# Altium schematic symbol library Ferrite Chip.SchLib: 462 symbols (part 6 of 7)
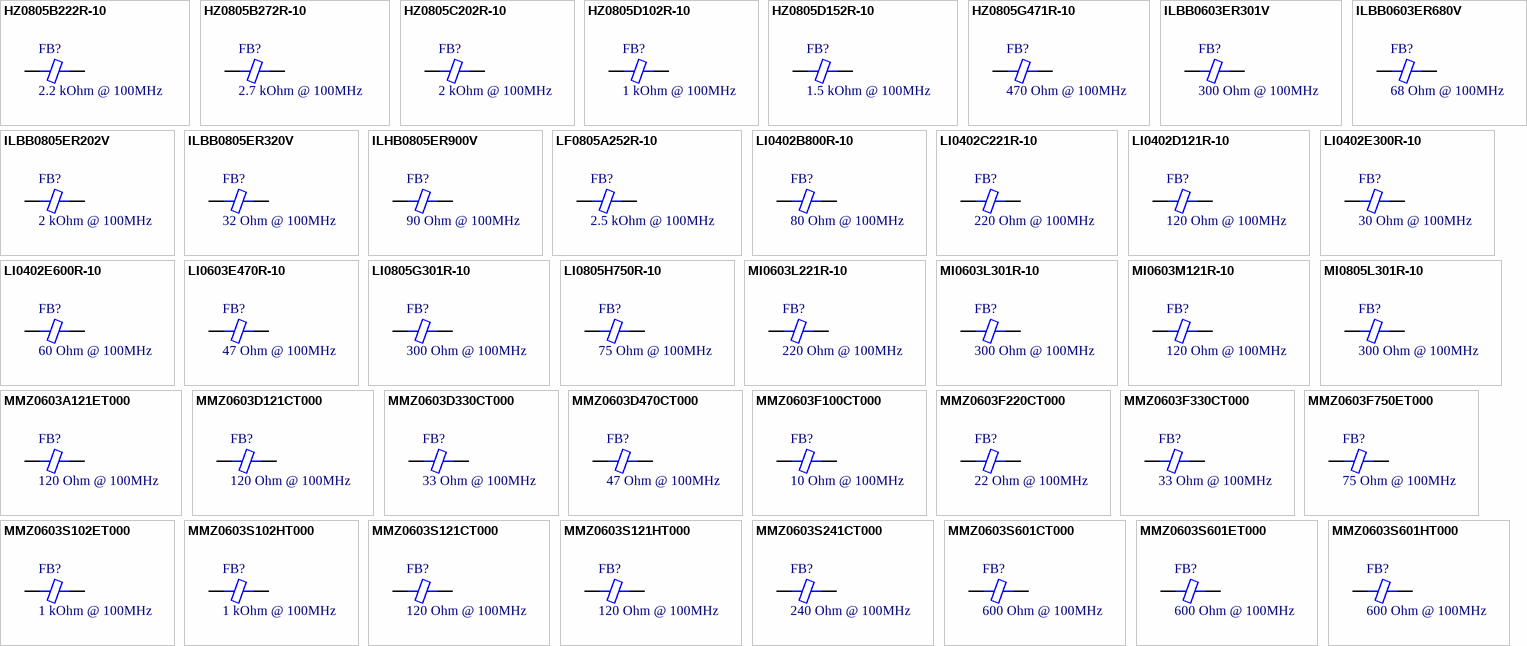
[diagram p16: symbols HZ0805B222R-10 to MMZ0603S601HT000]

## MMZ0603F100CT000
designator FB?, comment 10 Ohm @ 100MHz
FERRITE BEAD 10 OHM 0201 1LN; Part Number: MMZ0603F100CT000; Manufacturer: TDK Corporation; DC Resistance: 600 mOhm; Current Rating: 200mA; PartId: 20399; Value: 10 Ohm @ 100MHz; Supplier 1: Digi-Key; Supplier Part Number 1: 445-3334-2-ND; ComponentLink1Description: Datasheet; ComponentLink1URL: https://product.tdk.com/info/en/catalog/datasheets/beads_commercial_signal_mmz0603_en.pdf; ComponentLink2Description: Digi-Key Listing; ComponentLink2URL: https://www.digikey.com/product-detail/en/tdk-corporation/MMZ0603F100CT000/445-3334-2-ND/1473575; Price: 0.0282; Device Package: 0201 (0603 Metric)
footprint FER 0201/0603
pins: 1, 2

## MMZ0603F220CT000
designator FB?, comment 22 Ohm @ 100MHz
FERRITE BEAD 22 OHM 0201 1LN; Part Number: MMZ0603F220CT000; Manufacturer: TDK Corporation; DC Resistance: 1 Ohm; Current Rating: 200mA; PartId: 20400; Value: 22 Ohm @ 100MHz; Supplier 1: Digi-Key; Supplier Part Number 1: 445-7791-2-ND; ComponentLink1Description: Datasheet; ComponentLink1URL: https://product.tdk.com/info/en/catalog/datasheets/beads_commercial_signal_mmz0603_en.pdf; ComponentLink2Description: Digi-Key Listing; ComponentLink2URL: https://www.digikey.com/product-detail/en/tdk-corporation/MMZ0603F220CT000/445-7791-2-ND/2747661; Price: 0.0282; Device Package: 0201 (0603 Metric)
footprint FER 0201/0603
pins: 1, 2

## MMZ0603F330CT000
designator FB?, comment 33 Ohm @ 100MHz
FERRITE BEAD 33 OHM 0201 1LN; Part Number: MMZ0603F330CT000; Manufacturer: TDK Corporation; DC Resistance: 1.3 Ohm; Current Rating: 150mA; PartId: 20387; Value: 33 Ohm @ 100MHz; Supplier 1: Digi-Key; Supplier Part Number 1: 445-7792-2-ND; ComponentLink1Description: Datasheet; ComponentLink1URL: https://product.tdk.com/info/en/catalog/datasheets/beads_commercial_signal_mmz0603_en.pdf; ComponentLink2Description: Digi-Key Listing; ComponentLink2URL: https://www.digikey.com/product-detail/en/tdk-corporation/MMZ0603F330CT000/445-7792-2-ND/2747662; Price: 0.0282; Device Package: 0201 (0603 Metric)
footprint FER 0201/0603
pins: 1, 2

## MMZ0603F750ET000
designator FB?, comment 75 Ohm @ 100MHz
FERRITE BEAD 75 OHM 0201 1LN; Part Number: MMZ0603F750ET000; Manufacturer: TDK Corporation; DC Resistance: 2.6 Ohm; Current Rating: 125mA; PartId: 20405; Value: 75 Ohm @ 100MHz; Supplier 1: Digi-Key; Supplier Part Number 1: 445-172708-2-ND; ComponentLink1Description: Datasheet; ComponentLink1URL: https://product.tdk.com/info/en/catalog/datasheets/beads_commercial_signal_mmz0603-e_en.pdf; ComponentLink2Description: Digi-Key Listing; ComponentLink2URL: https://www.digikey.com/product-detail/en/tdk-corporation/MMZ0603F750ET000/445-172708-2-ND/5040132; Price: 0.0424; Device Package: 0201 (0603 Metric)
footprint FER 0201/0603
pins: 1, 2

## MMZ0603S102ET000
designator FB?, comment 1 kOhm @ 100MHz
FERRITE BEAD 1 KOHM 0201 1LN; Part Number: MMZ0603S102ET000; Manufacturer: TDK Corporation; DC Resistance: 2.6 Ohm; Current Rating: 125mA; PartId: 20363; Value: 1 kOhm @ 100MHz; Supplier 1: Digi-Key; Supplier Part Number 1: 445-15754-2-ND; ComponentLink1Description: Datasheet; ComponentLink1URL: https://product.tdk.com/info/en/catalog/datasheets/beads_commercial_signal_mmz0603-e_en.pdf; ComponentLink2Description: Digi-Key Listing; ComponentLink2URL: https://www.digikey.com/product-detail/en/tdk-corporation/MMZ0603S102ET000/445-15754-2-ND/4327896; Price: 0.0994; Device Package: 0201 (0603 Metric)
footprint FER 0201/0603
pins: 1, 2

## MMZ0603S102HT000
designator FB?, comment 1 kOhm @ 100MHz
FERRITE BEAD 1 KOHM 0201 1LN; Part Number: MMZ0603S102HT000; Manufacturer: TDK Corporation; DC Resistance: 1.25 Ohm; Current Rating: 200mA; PartId: 20377; Value: 1 kOhm @ 100MHz; Supplier 1: Digi-Key; Supplier Part Number 1: 445-15755-2-ND; ComponentLink1Description: Datasheet; ComponentLink1URL: https://product.tdk.com/info/en/catalog/datasheets/beads_commercial_signal_mmz0603_en.pdf; ComponentLink2Description: Digi-Key Listing; ComponentLink2URL: https://www.digikey.com/product-detail/en/tdk-corporation/MMZ0603S102HT000/445-15755-2-ND/4327897; Price: 0.0352; Device Package: 0201 (0603 Metric)
footprint FER 0201/0603
pins: 1, 2

## MMZ0603S121CT000
designator FB?, comment 120 Ohm @ 100MHz
FERRITE BEAD 120 OHM 0201 1LN; Part Number: MMZ0603S121CT000; Manufacturer: TDK Corporation; DC Resistance: 450 mOhm; Current Rating: 200mA; PartId: 20365; Value: 120 Ohm @ 100MHz; Supplier 1: Digi-Key; Supplier Part Number 1: 445-2143-2-ND; ComponentLink1Description: Datasheet; ComponentLink1URL: https://product.tdk.com/info/en/catalog/datasheets/beads_commercial_signal_mmz0603_en.pdf; ComponentLink2Description: Digi-Key Listing; ComponentLink2URL: https://www.digikey.com/product-detail/en/tdk-corporation/MMZ0603S121CT000/445-2143-2-ND/765035; Price: 0.0282; Device Package: 0201 (0603 Metric)
footprint FER 0201/0603
pins: 1, 2

## MMZ0603S121HT000
designator FB?, comment 120 Ohm @ 100MHz
FERRITE CHIP 0603; Part Number: MMZ0603S121HT000; Manufacturer: TDK Corporation; DC Resistance: 220 mOhm Max; Current Rating: 480mA; PartId: 6725; Value: 120 Ohm @ 100MHz; Supplier 1: Digi-Key; Supplier Part Number 1: 445-172340-2-ND; ComponentLink1Description: Datasheet; ComponentLink1URL: https://product.tdk.com/info/en/catalog/datasheets/beads_commercial_signal_mmz0603_en.pdf; ComponentLink2Description: Digi-Key listing; ComponentLink2URL: http://digikey.com/product-detail/en/MMZ0603S121HT000/445-172340-2-ND/4916900; Price: 0.0406; Type: -; Device Package: 0603 (1608 Metric)
footprint FER 0603/1608
pins: 1, 2

## MMZ0603S241CT000
designator FB?, comment 240 Ohm @ 100MHz
FERRITE BEAD 240 OHM 0201 1LN; Part Number: MMZ0603S241CT000; Manufacturer: TDK Corporation; DC Resistance: 570 mOhm; Current Rating: 200mA; PartId: 20367; Value: 240 Ohm @ 100MHz; Supplier 1: Digi-Key; Supplier Part Number 1: 445-2144-2-ND; ComponentLink1Description: Datasheet; ComponentLink1URL: https://product.tdk.com/info/en/catalog/datasheets/beads_commercial_signal_mmz0603_en.pdf; ComponentLink2Description: Digi-Key Listing; ComponentLink2URL: https://www.digikey.com/product-detail/en/tdk-corporation/MMZ0603S241CT000/445-2144-2-ND/765036; Price: 0.0282; Device Package: 0201 (0603 Metric)
footprint FER 0201/0603
pins: 1, 2

## MMZ0603S601CT000
designator FB?, comment 600 Ohm @ 100MHz
FERRITE BEAD 600 OHM 0201 1LN; Part Number: MMZ0603S601CT000; Manufacturer: TDK Corporation; DC Resistance: 1.45 Ohm; Current Rating: 100mA; PartId: 20368; Value: 600 Ohm @ 100MHz; Supplier 1: Digi-Key; Supplier Part Number 1: 445-2146-2-ND; ComponentLink1Description: Datasheet; ComponentLink1URL: https://product.tdk.com/info/en/catalog/datasheets/beads_commercial_signal_mmz0603_en.pdf; ComponentLink2Description: Digi-Key Listing; ComponentLink2URL: https://www.digikey.com/product-detail/en/tdk-corporation/MMZ0603S601CT000/445-2146-2-ND/765038; Price: 0.0282; Device Package: 0201 (0603 Metric)
footprint FER 0201/0603
pins: 1, 2

## MMZ0603S601ET000
designator FB?, comment 600 Ohm @ 100MHz
FERRITE BEAD 600 OHM 0201 1LN; Part Number: MMZ0603S601ET000; Manufacturer: TDK Corporation; DC Resistance: 1.6 Ohm; Current Rating: 150mA; PartId: 20404; Value: 600 Ohm @ 100MHz; Supplier 1: Digi-Key; Supplier Part Number 1: 445-15756-2-ND; ComponentLink1Description: Datasheet; ComponentLink1URL: https://product.tdk.com/info/en/catalog/datasheets/beads_commercial_signal_mmz0603-e_en.pdf; ComponentLink2Description: Digi-Key Listing; ComponentLink2URL: https://www.digikey.com/product-detail/en/tdk-corporation/MMZ0603S601ET000/445-15756-2-ND/4327898; Price: 0.0994; Device Package: 0201 (0603 Metric)
footprint FER 0201/0603
pins: 1, 2

## MMZ0603S601HT000
designator FB?, comment 600 Ohm @ 100MHz
FERRITE BEAD 600 OHM 0201 1LN; Part Number: MMZ0603S601HT000; Manufacturer: TDK Corporation; DC Resistance: 750 mOhm; Current Rating: 280mA; PartId: 20366; Value: 600 Ohm @ 100MHz; Supplier 1: Digi-Key; Supplier Part Number 1: 445-172343-2-ND; ComponentLink1Description: Datasheet; ComponentLink1URL: https://product.tdk.com/info/en/catalog/datasheets/beads_commercial_signal_mmz0603_en.pdf; ComponentLink2Description: Digi-Key Listing; ComponentLink2URL: https://www.digikey.com/product-detail/en/tdk-corporation/MMZ0603S601HT000/445-172343-2-ND/4916904; Price: 0.0282; Device Package: 0201 (0603 Metric)
footprint FER 0201/0603
pins: 1, 2

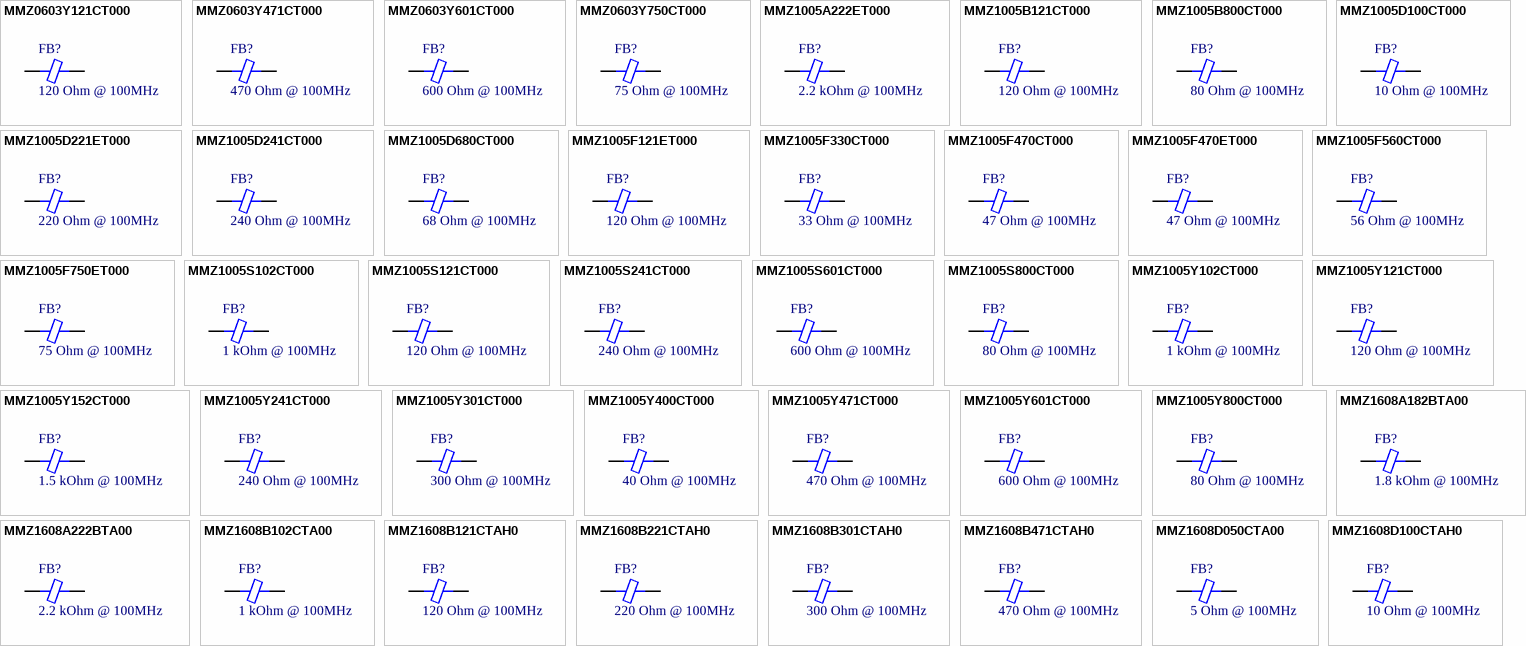
[diagram p9: symbols MMZ0603Y121CT000 to MMZ1608D100CTAH0]

## MMZ0603Y121CT000
designator FB?, comment 120 Ohm @ 100MHz
FERRITE BEAD 120 OHM 0201 1LN; Part Number: MMZ0603Y121CT000; Manufacturer: TDK Corporation; DC Resistance: 390 mOhm; Current Rating: 200mA; PartId: 20398; Value: 120 Ohm @ 100MHz; Supplier 1: Digi-Key; Supplier Part Number 1: 445-2147-2-ND; ComponentLink1Description: Datasheet; ComponentLink1URL: https://product.tdk.com/info/en/catalog/datasheets/beads_commercial_signal_mmz0603_en.pdf; ComponentLink2Description: Digi-Key Listing; ComponentLink2URL: https://www.digikey.com/product-detail/en/tdk-corporation/MMZ0603Y121CT000/445-2147-2-ND/765039; Price: 0.0282; Device Package: 0201 (0603 Metric)
footprint FER 0201/0603
pins: 1, 2

## MMZ0603Y471CT000
designator FB?, comment 470 Ohm @ 100MHz
FERRITE BEAD 470 OHM 0201 1LN; Part Number: MMZ0603Y471CT000; Manufacturer: TDK Corporation; DC Resistance: 1.4 Ohm; Current Rating: 200mA; PartId: 20385; Value: 470 Ohm @ 100MHz; Supplier 1: Digi-Key; Supplier Part Number 1: 445-2149-2-ND; ComponentLink1Description: Datasheet; ComponentLink1URL: https://product.tdk.com/info/en/catalog/datasheets/beads_commercial_signal_mmz0603_en.pdf; ComponentLink2Description: Digi-Key Listing; ComponentLink2URL: https://www.digikey.com/product-detail/en/tdk-corporation/MMZ0603Y471CT000/445-2149-2-ND/765041; Price: 0.0282; Device Package: 0201 (0603 Metric)
footprint FER 0201/0603
pins: 1, 2

## MMZ0603Y601CT000
designator FB?, comment 600 Ohm @ 100MHz
FERRITE BEAD 600 OHM 0201 1LN; Part Number: MMZ0603Y601CT000; Manufacturer: TDK Corporation; DC Resistance: 1.5 Ohm; Current Rating: 200mA; PartId: 20386; Value: 600 Ohm @ 100MHz; Supplier 1: Digi-Key; Supplier Part Number 1: 445-7790-2-ND; ComponentLink1Description: Datasheet; ComponentLink1URL: https://product.tdk.com/info/en/catalog/datasheets/beads_commercial_signal_mmz0603_en.pdf; ComponentLink2Description: Digi-Key Listing; ComponentLink2URL: https://www.digikey.com/product-detail/en/tdk-corporation/MMZ0603Y601CT000/445-7790-2-ND/2747660; Price: 0.0282; Device Package: 0201 (0603 Metric)
footprint FER 0201/0603
pins: 1, 2

## MMZ0603Y750CT000
designator FB?, comment 75 Ohm @ 100MHz
FERRITE BEAD 75 OHM 0201 1LN; Part Number: MMZ0603Y750CT000; Manufacturer: TDK Corporation; DC Resistance: 350 mOhm; Current Rating: 300mA; PartId: 20402; Value: 75 Ohm @ 100MHz; Supplier 1: Digi-Key; Supplier Part Number 1: 445-15757-2-ND; ComponentLink1Description: Datasheet; ComponentLink1URL: https://product.tdk.com/info/en/catalog/datasheets/beads_commercial_signal_mmz0603_en.pdf; ComponentLink2Description: Digi-Key Listing; ComponentLink2URL: https://www.digikey.com/product-detail/en/tdk-corporation/MMZ0603Y750CT000/445-15757-2-ND/4327899; Price: 0.0352; Device Package: 0201 (0603 Metric)
footprint FER 0201/0603
pins: 1, 2

## MMZ1005A222ET000
designator FB?, comment 2.2 kOhm @ 100MHz
FERRITE CHIP 2200 OHM 0402; Part Number: MMZ1005A222ET000; Manufacturer: TDK Corporation; Type: Differential Mode - Single; DC Resistance: 2.3 Ohm Max; Current Rating: 150mA; PartId: 6547; Value: 2.2 kOhm @ 100MHz; Supplier 1: Digi-Key; Supplier Part Number 1: 445-6404-2-ND; ComponentLink1Description: Datasheet; ComponentLink1URL: https://product.tdk.com/info/en/catalog/datasheets/beads_commercial_signal_mmz1005-e_en.pdf; ComponentLink2Description: Digi-Key listing; ComponentLink2URL: http://digikey.com/product-detail/en/MMZ1005A222ET000/445-6404-2-ND/2465161; Price: 0.0678; Device Package: 0402 (1005 Metric)
footprint FER 0402/1005
pins: 1, 2

## MMZ1005B121CT000
designator FB?, comment 120 Ohm @ 100MHz
FERRITE CHIP 120 OHM 0402; Part Number: MMZ1005B121CT000; Manufacturer: TDK Corporation; Type: Differential Mode - Single; DC Resistance: 250 mOhm Max; Current Rating: 400mA; PartId: 6472; Value: 120 Ohm @ 100MHz; Supplier 1: Digi-Key; Supplier Part Number 1: 445-3336-2-ND; ComponentLink1Description: Datasheet; ComponentLink1URL: https://product.tdk.com/info/en/catalog/datasheets/beads_commercial_signal_mmz1005_en.pdf; ComponentLink2Description: Digi-Key listing; ComponentLink2URL: http://digikey.com/product-detail/en/MMZ1005B121CT000/445-3336-2-ND/1473577; Price: 0.025; Device Package: 0402 (1005 Metric)
footprint FER 0402/1005
pins: 1, 2

## MMZ1005B800CT000
designator FB?, comment 80 Ohm @ 100MHz
FERRITE CHIP 80 OHM 0402; Part Number: MMZ1005B800CT000; Manufacturer: TDK Corporation; Type: Differential Mode - Single; DC Resistance: 200 mOhm Max; Current Rating: 450mA; PartId: 6463; Value: 80 Ohm @ 100MHz; Supplier 1: Digi-Key; Supplier Part Number 1: 445-3335-2-ND; ComponentLink1Description: Datasheet; ComponentLink1URL: https://product.tdk.com/info/en/catalog/datasheets/beads_commercial_signal_mmz1005_en.pdf; ComponentLink2Description: Digi-Key listing; ComponentLink2URL: http://digikey.com/product-detail/en/MMZ1005B800CT000/445-3335-2-ND/1473576; Price: 0.025; Device Package: 0402 (1005 Metric)
footprint FER 0402/1005
pins: 1, 2

## MMZ1005D100CT000
designator FB?, comment 10 Ohm @ 100MHz
FERRITE CHIP 10 OHM 0402; Part Number: MMZ1005D100CT000; Manufacturer: TDK Corporation; Type: Differential Mode - Single; DC Resistance: 100 mOhm Max; Current Rating: 500mA; PartId: 6473; Value: 10 Ohm @ 100MHz; Supplier 1: Digi-Key; Supplier Part Number 1: 445-3338-2-ND; ComponentLink1Description: Datasheet; ComponentLink1URL: https://product.tdk.com/info/en/catalog/datasheets/beads_commercial_signal_mmz1005_en.pdf; ComponentLink2Description: Digi-Key listing; ComponentLink2URL: http://digikey.com/product-detail/en/MMZ1005D100CT000/445-3338-2-ND/1473579; Price: 0.025; Device Package: 0402 (1005 Metric)
footprint FER 0402/1005
pins: 1, 2

## MMZ1005D221ET000
designator FB?, comment 220 Ohm @ 100MHz
FERRITE CHIP 220OHM 0402; Part Number: MMZ1005D221ET000; Manufacturer: TDK Corporation; Type: Differential Mode - Single; DC Resistance: 1 Ohm Max; Current Rating: 250mA; PartId: 6549; Value: 220 Ohm @ 100MHz; Supplier 1: Digi-Key; Supplier Part Number 1: 445-6750-2-ND; ComponentLink1Description: Datasheet; ComponentLink2Description: Digi-Key listing; ComponentLink2URL: http://digikey.com/product-detail/en/MMZ1005D221ET000/445-6750-2-ND/2523488; Price: 0.0678; Device Package: 0402 (1005 Metric)
footprint FER 0402/1005
pins: 1, 2

## MMZ1005D241CT000
designator FB?, comment 240 Ohm @ 100MHz
FERRITE CHIP 240 OHM 0402; Part Number: MMZ1005D241CT000; Manufacturer: TDK Corporation; Type: Differential Mode - Single; DC Resistance: 600 mOhm Max; Current Rating: 200mA; PartId: 6470; Value: 240 Ohm @ 100MHz; Supplier 1: Digi-Key; Supplier Part Number 1: 445-3343-2-ND; ComponentLink1Description: Datasheet; ComponentLink1URL: https://product.tdk.com/info/en/catalog/datasheets/beads_commercial_signal_mmz1005_en.pdf; ComponentLink2Description: Digi-Key listing; ComponentLink2URL: http://digikey.com/product-detail/en/MMZ1005D241CT000/445-3343-2-ND/1473584; Price: 0.025; Device Package: 0402 (1005 Metric)
footprint FER 0402/1005
pins: 1, 2

## MMZ1005D680CT000
designator FB?, comment 68 Ohm @ 100MHz
FERRITE CHIP 68 OHM 0402; Part Number: MMZ1005D680CT000; Manufacturer: TDK Corporation; Type: Differential Mode - Single; DC Resistance: 750 mOhm Max; Current Rating: 400mA; PartId: 6476; Value: 68 Ohm @ 100MHz; Supplier 1: Digi-Key; Supplier Part Number 1: 445-3341-2-ND; ComponentLink1Description: Datasheet; ComponentLink1URL: https://product.tdk.com/info/en/catalog/datasheets/beads_commercial_signal_mmz1005_en.pdf; ComponentLink2Description: Digi-Key listing; ComponentLink2URL: http://digikey.com/product-detail/en/MMZ1005D680CT000/445-3341-2-ND/1473582; Price: 0.025; Device Package: 0402 (1005 Metric)
footprint FER 0402/1005
pins: 1, 2

## MMZ1005F121ET000
designator FB?, comment 120 Ohm @ 100MHz
FERRITE CHIP 120OHM 0402; Part Number: MMZ1005F121ET000; Manufacturer: TDK Corporation; Type: Differential Mode - Single; DC Resistance: 1.5 Ohm Max; Current Rating: 200mA; PartId: 6548; Value: 120 Ohm @ 100MHz; Supplier 1: Digi-Key; Supplier Part Number 1: 445-6795-2-ND; ComponentLink1Description: Datasheet; ComponentLink1URL: https://product.tdk.com/info/en/catalog/datasheets/beads_commercial_signal_mmz1005-e_en.pdf; ComponentLink2Description: Digi-Key listing; ComponentLink2URL: http://digikey.com/product-detail/en/MMZ1005F121ET000/445-6795-2-ND/2235282; Price: 0.0678; Device Package: 0402 (1005 Metric)
footprint FER 0402/1005
pins: 1, 2

## MMZ1005F330CT000
designator FB?, comment 33 Ohm @ 100MHz
FERRITE CHIP 33 OHM 0402; Part Number: MMZ1005F330CT000; Manufacturer: TDK Corporation; Type: Differential Mode - Single; DC Resistance: 800 mOhm Max; Current Rating: 200mA; PartId: 6469; Value: 33 Ohm @ 100MHz; Supplier 1: Digi-Key; Supplier Part Number 1: 445-3344-2-ND; ComponentLink1Description: Datasheet; ComponentLink1URL: https://product.tdk.com/info/en/catalog/datasheets/beads_commercial_signal_mmz1005_en.pdf; ComponentLink2Description: Digi-Key listing; ComponentLink2URL: http://digikey.com/product-detail/en/MMZ1005F330CT000/445-3344-2-ND/1473585; Price: 0.025; Device Package: 0402 (1005 Metric)
footprint FER 0402/1005
pins: 1, 2

## MMZ1005F470CT000
designator FB?, comment 47 Ohm @ 100MHz
FERRITE CHIP 47 OHM 0402; Part Number: MMZ1005F470CT000; Manufacturer: TDK Corporation; Type: Differential Mode - Single; DC Resistance: 800 mOhm Max; Current Rating: 100mA; PartId: 6477; Value: 47 Ohm @ 100MHz; Supplier 1: Digi-Key; Supplier Part Number 1: 445-3345-2-ND; ComponentLink1Description: Datasheet; ComponentLink1URL: https://product.tdk.com/info/en/catalog/datasheets/beads_commercial_signal_mmz1005_en.pdf; ComponentLink2Description: Digi-Key listing; ComponentLink2URL: http://digikey.com/product-detail/en/MMZ1005F470CT000/445-3345-2-ND/1473586; Price: 0.025; Device Package: 0402 (1005 Metric)
footprint FER 0402/1005
pins: 1, 2

## MMZ1005F470ET000
designator FB?, comment 47 Ohm @ 100MHz
FERRITE CHIP 47OHM 0402; Part Number: MMZ1005F470ET000; Manufacturer: TDK Corporation; Type: Differential Mode - Single; DC Resistance: 700 mOhm Max; Current Rating: 300mA; PartId: 6550; Value: 47 Ohm @ 100MHz; Supplier 1: Digi-Key; Supplier Part Number 1: 445-6751-2-ND; ComponentLink1Description: Datasheet; ComponentLink1URL: https://product.tdk.com/info/en/catalog/datasheets/beads_commercial_signal_mmz1005-e_en.pdf; ComponentLink2Description: Digi-Key listing; ComponentLink2URL: http://digikey.com/product-detail/en/MMZ1005F470ET000/445-6751-2-ND/2523489; Price: 0.0678; Device Package: 0402 (1005 Metric)
footprint FER 0402/1005
pins: 1, 2

## MMZ1005F560CT000
designator FB?, comment 56 Ohm @ 100MHz
FERRITE CHIP 56 OHM 0402; Part Number: MMZ1005F560CT000; Manufacturer: TDK Corporation; Type: Differential Mode - Single; DC Resistance: 200 mOhm Max; Current Rating: 100mA; PartId: 6464; Value: 56 Ohm @ 100MHz; Supplier 1: Digi-Key; Supplier Part Number 1: 445-3346-2-ND; ComponentLink1Description: Datasheet; ComponentLink1URL: https://product.tdk.com/info/en/catalog/datasheets/beads_commercial_signal_mmz1005_en.pdf; ComponentLink2Description: Digi-Key listing; ComponentLink2URL: http://digikey.com/product-detail/en/MMZ1005F560CT000/445-3346-2-ND/1473587; Price: 0.025; Device Package: 0402 (1005 Metric)
footprint FER 0402/1005
pins: 1, 2

## MMZ1005F750ET000
designator FB?, comment 75 Ohm @ 100MHz
FERRITE CHIP 75OHM 0402; Part Number: MMZ1005F750ET000; Manufacturer: TDK Corporation; Type: Differential Mode - Single; DC Resistance: 1 Ohm Max; Current Rating: 250mA; PartId: 6551; Value: 75 Ohm @ 100MHz; Supplier 1: Digi-Key; Supplier Part Number 1: 445-6752-2-ND; ComponentLink1Description: Datasheet; ComponentLink1URL: https://product.tdk.com/info/en/catalog/datasheets/beads_commercial_signal_mmz1005-e_en.pdf; ComponentLink2Description: Digi-Key listing; ComponentLink2URL: http://digikey.com/product-detail/en/MMZ1005F750ET000/445-6752-2-ND/2523490; Price: 0.0678; Device Package: 0402 (1005 Metric)
footprint FER 0402/1005
pins: 1, 2

## MMZ1005S102CT000
designator FB?, comment 1 kOhm @ 100MHz
FERRITE CHIP 1000 OHM 0402; Part Number: MMZ1005S102CT000; Manufacturer: TDK Corporation; Type: Differential Mode - Single; DC Resistance: 1 Ohm Max; Current Rating: 200mA; PartId: 6455; Value: 1 kOhm @ 100MHz; Supplier 1: Digi-Key; Supplier Part Number 1: 445-2163-2-ND; ComponentLink1Description: Datasheet; ComponentLink1URL: https://product.tdk.com/info/en/catalog/datasheets/beads_commercial_signal_mmz1005_en.pdf; ComponentLink2Description: Digi-Key listing; ComponentLink2URL: http://digikey.com/product-detail/en/MMZ1005S102CT000/445-2163-2-ND/765047; Price: 0.025; Device Package: 0402 (1005 Metric)
footprint FER 0402/1005
pins: 1, 2

## MMZ1005S121CT000
designator FB?, comment 120 Ohm @ 100MHz
FERRITE CHIP 120 OHM 0402; Part Number: MMZ1005S121CT000; Manufacturer: TDK Corporation; Type: Differential Mode - Single; DC Resistance: 250 mOhm Max; Current Rating: 500mA; PartId: 6456; Value: 120 Ohm @ 100MHz; Supplier 1: Digi-Key; Supplier Part Number 1: 445-2160-2-ND; ComponentLink1Description: Datasheet; ComponentLink1URL: https://product.tdk.com/info/en/catalog/datasheets/beads_commercial_signal_mmz1005_en.pdf; ComponentLink2Description: Digi-Key listing; ComponentLink2URL: http://digikey.com/product-detail/en/MMZ1005S121CT000/445-2160-2-ND/765044; Price: 0.025; Device Package: 0402 (1005 Metric)
footprint FER 0402/1005
pins: 1, 2

## MMZ1005S241CT000
designator FB?, comment 240 Ohm @ 100MHz
FERRITE CHIP 240 OHM 0402; Part Number: MMZ1005S241CT000; Manufacturer: TDK Corporation; Type: Differential Mode - Single; DC Resistance: 400 mOhm Max; Current Rating: 400mA; PartId: 6454; Value: 240 Ohm @ 100MHz; Supplier 1: Digi-Key; Supplier Part Number 1: 445-2161-2-ND; ComponentLink1Description: Datasheet; ComponentLink1URL: https://product.tdk.com/info/en/catalog/datasheets/beads_commercial_signal_mmz1005_en.pdf; ComponentLink2Description: Digi-Key listing; ComponentLink2URL: http://digikey.com/product-detail/en/MMZ1005S241CT000/445-2161-2-ND/765045; Price: 0.025; Device Package: 0402 (1005 Metric)
footprint FER 0402/1005
pins: 1, 2

## MMZ1005S601CT000
designator FB?, comment 600 Ohm @ 100MHz
FERRITE CHIP 600 OHM 0402; Part Number: MMZ1005S601CT000; Manufacturer: TDK Corporation; Type: Differential Mode - Single; DC Resistance: 600 mOhm Max; Current Rating: 300mA; PartId: 6453; Value: 600 Ohm @ 100MHz; Supplier 1: Digi-Key; Supplier Part Number 1: 445-2162-2-ND; ComponentLink1Description: Datasheet; ComponentLink1URL: https://product.tdk.com/info/en/catalog/datasheets/beads_commercial_signal_mmz1005_en.pdf; ComponentLink2Description: Digi-Key listing; ComponentLink2URL: http://digikey.com/product-detail/en/MMZ1005S601CT000/445-2162-2-ND/765046; Price: 0.025; Device Package: 0402 (1005 Metric)
footprint FER 0402/1005
pins: 1, 2

## MMZ1005S800CT000
designator FB?, comment 80 Ohm @ 100MHz
FERRITE CHIP 80 OHM 0402; Part Number: MMZ1005S800CT000; Manufacturer: TDK Corporation; Type: Differential Mode - Single; DC Resistance: 200 mOhm Max; Current Rating: 500mA; PartId: 6471; Value: 80 Ohm @ 100MHz; Supplier 1: Digi-Key; Supplier Part Number 1: 445-2159-2-ND; ComponentLink1Description: Datasheet; ComponentLink1URL: https://product.tdk.com/info/en/catalog/datasheets/beads_commercial_signal_mmz1005_en.pdf; ComponentLink2Description: Digi-Key listing; ComponentLink2URL: http://digikey.com/product-detail/en/MMZ1005S800CT000/445-2159-2-ND/765043; Price: 0.025; Device Package: 0402 (1005 Metric)
footprint FER 0402/1005
pins: 1, 2

## MMZ1005Y102CT000
designator FB?, comment 1 kOhm @ 100MHz
FERRITE CHIP 1000 OHM 200MA 0402; Part Number: MMZ1005Y102CT000; Manufacturer: TDK Corporation; Type: Differential Mode - Single; DC Resistance: 740 mOhm Max; PartId: 6467; Value: 1 kOhm @ 100MHz; Supplier 1: Digi-Key; Supplier Part Number 1: 445-2157-2-ND; ComponentLink1Description: Datasheet; ComponentLink1URL: https://product.tdk.com/info/en/catalog/datasheets/beads_commercial_signal_mmz1005_en.pdf; ComponentLink2Description: Digi-Key listing; ComponentLink2URL: http://digikey.com/product-detail/en/MMZ1005Y102CT000/445-2157-2-ND/604115; Price: 0.025; Device Package: 0402 (1005 Metric); Current Rating: 200mA
footprint FER 0402/1005
pins: 1, 2

## MMZ1005Y121CT000
designator FB?, comment 120 Ohm @ 100MHz
FERRITE CHIP 120 OHM 400MA 0402; Part Number: MMZ1005Y121CT000; Manufacturer: TDK Corporation; Type: Differential Mode - Single; DC Resistance: 210 mOhm Max; PartId: 6465; Value: 120 Ohm @ 100MHz; Supplier 1: Digi-Key; Supplier Part Number 1: 445-2152-2-ND; ComponentLink1Description: Datasheet; ComponentLink1URL: https://product.tdk.com/info/en/catalog/datasheets/beads_commercial_signal_mmz1005_en.pdf; ComponentLink2Description: Digi-Key listing; ComponentLink2URL: http://digikey.com/product-detail/en/MMZ1005Y121CT000/445-2152-2-ND/604110; Price: 0.025; Device Package: 0402 (1005 Metric); Current Rating: 400mA
footprint FER 0402/1005
pins: 1, 2

## MMZ1005Y152CT000
designator FB?, comment 1.5 kOhm @ 100MHz
FERRITE CHIP 1500 OHM 100MA 0402; Part Number: MMZ1005Y152CT000; Manufacturer: TDK Corporation; Type: Differential Mode - Single; DC Resistance: 1.15 Ohm Max; PartId: 6459; Value: 1.5 kOhm @ 100MHz; Supplier 1: Digi-Key; Supplier Part Number 1: 445-2158-2-ND; ComponentLink1Description: Datasheet; ComponentLink1URL: https://product.tdk.com/info/en/catalog/datasheets/beads_commercial_signal_mmz1005_en.pdf; ComponentLink2Description: Digi-Key listing; ComponentLink2URL: http://digikey.com/product-detail/en/MMZ1005Y152CT000/445-2158-2-ND/604116; Price: 0.025; Device Package: 0402 (1005 Metric); Current Rating: 100mA
footprint FER 0402/1005
pins: 1, 2

## MMZ1005Y241CT000
designator FB?, comment 240 Ohm @ 100MHz
FERRITE CHIP 240 OHM 300MA 0402; Part Number: MMZ1005Y241CT000; Manufacturer: TDK Corporation; Type: Differential Mode - Single; DC Resistance: 330 mOhm Max; PartId: 6460; Value: 240 Ohm @ 100MHz; Supplier 1: Digi-Key; Supplier Part Number 1: 445-2153-2-ND; ComponentLink1Description: Datasheet; ComponentLink1URL: https://product.tdk.com/info/en/catalog/datasheets/beads_commercial_signal_mmz1005_en.pdf; ComponentLink2Description: Digi-Key listing; ComponentLink2URL: http://digikey.com/product-detail/en/MMZ1005Y241CT000/445-2153-2-ND/604111; Price: 0.025; Device Package: 0402 (1005 Metric); Current Rating: 300mA
footprint FER 0402/1005
pins: 1, 2

## MMZ1005Y301CT000
designator FB?, comment 300 Ohm @ 100MHz
FERRITE CHIP 300 OHM 250MA 0402; Part Number: MMZ1005Y301CT000; Manufacturer: TDK Corporation; Type: Differential Mode - Single; DC Resistance: 380 mOhm Max; PartId: 6458; Value: 300 Ohm @ 100MHz; Supplier 1: Digi-Key; Supplier Part Number 1: 445-2154-2-ND; ComponentLink1Description: Datasheet; ComponentLink1URL: https://product.tdk.com/info/en/catalog/datasheets/beads_commercial_signal_mmz1005_en.pdf; ComponentLink2Description: Digi-Key listing; ComponentLink2URL: http://digikey.com/product-detail/en/MMZ1005Y301CT000/445-2154-2-ND/604112; Price: 0.025; Device Package: 0402 (1005 Metric); Current Rating: 250mA
footprint FER 0402/1005
pins: 1, 2

## MMZ1005Y400CT000
designator FB?, comment 40 Ohm @ 100MHz
FERRITE CHIP 40 OHM 550MA 0402; Part Number: MMZ1005Y400CT000; Manufacturer: TDK Corporation; Type: Differential Mode - Single; DC Resistance: 120 mOhm Max; PartId: 6462; Value: 40 Ohm @ 100MHz; Supplier 1: Digi-Key; Supplier Part Number 1: 445-2150-2-ND; ComponentLink1Description: Datasheet; ComponentLink1URL: https://product.tdk.com/info/en/catalog/datasheets/beads_commercial_signal_mmz1005_en.pdf; ComponentLink2Description: Digi-Key listing; ComponentLink2URL: http://digikey.com/product-detail/en/MMZ1005Y400CT000/445-2150-2-ND/604108; Price: 0.025; Device Package: 0402 (1005 Metric); Current Rating: 550mA
footprint FER 0402/1005
pins: 1, 2

## MMZ1005Y471CT000
designator FB?, comment 470 Ohm @ 100MHz
FERRITE CHIP 470 OHM 250MA 0402; Part Number: MMZ1005Y471CT000; Manufacturer: TDK Corporation; Type: Differential Mode - Single; DC Resistance: 500 mOhm Max; PartId: 6457; Value: 470 Ohm @ 100MHz; Supplier 1: Digi-Key; Supplier Part Number 1: 445-2155-2-ND; ComponentLink1Description: Datasheet; ComponentLink1URL: https://product.tdk.com/info/en/catalog/datasheets/beads_commercial_signal_mmz1005_en.pdf; ComponentLink2Description: Digi-Key listing; ComponentLink2URL: http://digikey.com/product-detail/en/MMZ1005Y471CT000/445-2155-2-ND/604113; Price: 0.025; Device Package: 0402 (1005 Metric); Current Rating: 250mA
footprint FER 0402/1005
pins: 1, 2

## MMZ1005Y601CT000
designator FB?, comment 600 Ohm @ 100MHz
FERRITE CHIP 600 OHM 250MA 0402; Part Number: MMZ1005Y601CT000; Manufacturer: TDK Corporation; Type: Differential Mode - Single; DC Resistance: 560 mOhm Max; PartId: 6466; Value: 600 Ohm @ 100MHz; Supplier 1: Digi-Key; Supplier Part Number 1: 445-2156-2-ND; ComponentLink1Description: Datasheet; ComponentLink1URL: https://product.tdk.com/info/en/catalog/datasheets/beads_commercial_signal_mmz1005_en.pdf; ComponentLink2Description: Digi-Key listing; ComponentLink2URL: http://digikey.com/product-detail/en/MMZ1005Y601CT000/445-2156-2-ND/604114; Price: 0.025; Device Package: 0402 (1005 Metric); Current Rating: 250mA
footprint FER 0402/1005
pins: 1, 2

## MMZ1005Y800CT000
designator FB?, comment 80 Ohm @ 100MHz
FERRITE CHIP 80 OHM 450MA 0402; Part Number: MMZ1005Y800CT000; Manufacturer: TDK Corporation; Type: Differential Mode - Single; DC Resistance: 170 mOhm Max; PartId: 6475; Value: 80 Ohm @ 100MHz; Supplier 1: Digi-Key; Supplier Part Number 1: 445-2151-2-ND; ComponentLink1Description: Datasheet; ComponentLink1URL: https://product.tdk.com/info/en/catalog/datasheets/beads_commercial_signal_mmz1005_en.pdf; ComponentLink2Description: Digi-Key listing; ComponentLink2URL: http://digikey.com/product-detail/en/MMZ1005Y800CT000/445-2151-2-ND/604109; Price: 0.025; Device Package: 0402 (1005 Metric); Current Rating: 450mA
footprint FER 0402/1005
pins: 1, 2

## MMZ1608A182BTA00
designator FB?, comment 1.8 kOhm @ 100MHz
FERRITE CHIP 1800 OHM 0603; Part Number: MMZ1608A182BTA00; Manufacturer: TDK Corporation; Type: Differential Mode - Single; DC Resistance: 800 mOhm Max; Current Rating: 200mA; PartId: 6717; Value: 1.8 kOhm @ 100MHz; Supplier 1: Digi-Key; Supplier Part Number 1: 445-8670-2-ND; ComponentLink1Description: Datasheet; ComponentLink1URL: https://product.tdk.com/info/en/catalog/datasheets/beads_commercial_signal_mmz1608_en.pdf; ComponentLink2Description: Digi-Key listing; ComponentLink2URL: http://digikey.com/product-detail/en/MMZ1608A182BTA00/445-8670-2-ND/3078628; Price: 0.0332; Device Package: 0603 (1608 Metric)
footprint FER 0603/1608
pins: 1, 2

## MMZ1608A222BTA00
designator FB?, comment 2.2 kOhm @ 100MHz
FERRITE CHIP 2200 OHM 0603; Part Number: MMZ1608A222BTA00; Manufacturer: TDK Corporation; Type: Differential Mode - Single; DC Resistance: 800 mOhm Max; Current Rating: 200mA; PartId: 6715; Value: 2.2 kOhm @ 100MHz; Supplier 1: Digi-Key; Supplier Part Number 1: 445-8671-2-ND; ComponentLink1Description: Datasheet; ComponentLink1URL: https://product.tdk.com/info/en/catalog/datasheets/beads_commercial_signal_mmz1608_en.pdf; ComponentLink2Description: Digi-Key listing; ComponentLink2URL: http://digikey.com/product-detail/en/MMZ1608A222BTA00/445-8671-2-ND/3078629; Price: 0.0332; Device Package: 0603 (1608 Metric)
footprint FER 0603/1608
pins: 1, 2

## MMZ1608B102CTA00
designator FB?, comment 1 kOhm @ 100MHz
FERRITE CHIP 1000 OHM 300MA 0603; Part Number: MMZ1608B102CTA00; Manufacturer: TDK Corporation; Type: Differential Mode - Single; DC Resistance: 600 mOhm Max; PartId: 6612; Value: 1 kOhm @ 100MHz; Supplier 1: Digi-Key; Supplier Part Number 1: 445-8672-2-ND; ComponentLink1Description: Datasheet; ComponentLink1URL: https://product.tdk.com/info/en/catalog/datasheets/beads_commercial_signal_mmz1608_en.pdf; ComponentLink2Description: Digi-Key listing; ComponentLink2URL: http://digikey.com/product-detail/en/MMZ1608B102CTA00/445-8672-2-ND/3078617; Price: 0.0275; Device Package: 0603 (1608 Metric); Current Rating: 300mA
footprint FER 0603/1608
pins: 1, 2

## MMZ1608B121CTAH0
designator FB?, comment 120 Ohm @ 100MHz
FERRITE CHIP 120 OHM 600MA 0603; Part Number: MMZ1608B121CTAH0; Manufacturer: TDK Corporation; Type: Differential Mode - Single; DC Resistance: 150 mOhm Max; PartId: 6610; Value: 120 Ohm @ 100MHz; Supplier 1: Digi-Key; Supplier Part Number 1: 445-2164-2-ND; ComponentLink1Description: Datasheet; ComponentLink1URL: https://product.tdk.com/info/en/catalog/datasheets/beads_commercial_signal_mmz1608_en.pdf; ComponentLink2Description: Digi-Key listing; ComponentLink2URL: http://digikey.com/product-detail/en/MMZ1608B121CTAH0/445-2164-2-ND/600531; Price: 0.0275; Device Package: 0603 (1608 Metric); Current Rating: 600mA
footprint FER 0603/1608
pins: 1, 2

## MMZ1608B221CTAH0
designator FB?, comment 220 Ohm @ 100MHz
FERRITE CHIP 220 OHM 500MA 0603; Part Number: MMZ1608B221CTAH0; Manufacturer: TDK Corporation; Type: Differential Mode - Single; DC Resistance: 250 mOhm Max; PartId: 6617; Value: 220 Ohm @ 100MHz; Supplier 1: Digi-Key; Supplier Part Number 1: 445-8673-2-ND; ComponentLink1Description: Datasheet; ComponentLink1URL: https://product.tdk.com/info/en/catalog/datasheets/beads_commercial_signal_mmz1608_en.pdf; ComponentLink2Description: Digi-Key listing; ComponentLink2URL: http://digikey.com/product-detail/en/MMZ1608B221CTAH0/445-8673-2-ND/3078612; Price: 0.0275; Device Package: 0603 (1608 Metric); Current Rating: 500mA
footprint FER 0603/1608
pins: 1, 2

## MMZ1608B301CTAH0
designator FB?, comment 300 Ohm @ 100MHz
FERRITE CHIP 300 OHM 500MA 0603; Part Number: MMZ1608B301CTAH0; Manufacturer: TDK Corporation; Type: Differential Mode - Single; DC Resistance: 250 mOhm Max; PartId: 6614; Value: 300 Ohm @ 100MHz; Supplier 1: Digi-Key; Supplier Part Number 1: 445-2165-2-ND; ComponentLink1Description: Datasheet; ComponentLink1URL: https://product.tdk.com/info/en/catalog/datasheets/beads_commercial_signal_mmz1608_en.pdf; ComponentLink2Description: Digi-Key listing; ComponentLink2URL: http://digikey.com/product-detail/en/MMZ1608B301CTAH0/445-2165-2-ND/600532; Price: 0.0275; Device Package: 0603 (1608 Metric); Current Rating: 500mA
footprint FER 0603/1608
pins: 1, 2

## MMZ1608B471CTAH0
designator FB?, comment 470 Ohm @ 100MHz
FERRITE CHIP 470 OHM 500MA 0603; Part Number: MMZ1608B471CTAH0; Manufacturer: TDK Corporation; Type: Differential Mode - Single; DC Resistance: 300 mOhm Max; PartId: 6615; Value: 470 Ohm @ 100MHz; Supplier 1: Digi-Key; Supplier Part Number 1: 445-8674-2-ND; ComponentLink1Description: Datasheet; ComponentLink1URL: https://product.tdk.com/info/en/catalog/datasheets/beads_commercial_signal_mmz1608_en.pdf; ComponentLink2Description: Digi-Key listing; ComponentLink2URL: http://digikey.com/product-detail/en/MMZ1608B471CTAH0/445-8674-2-ND/3078615; Price: 0.0275; Device Package: 0603 (1608 Metric); Current Rating: 500mA
footprint FER 0603/1608
pins: 1, 2

## MMZ1608D050CTA00
designator FB?, comment 5 Ohm @ 100MHz
FERRITE CHIP 5 OHM 0603; Part Number: MMZ1608D050CTA00; Manufacturer: TDK Corporation; DC Resistance: 50 mOhm Max; Current Rating: 700mA; PartId: 6714; Value: 5 Ohm @ 100MHz; Supplier 1: Digi-Key; Supplier Part Number 1: 445-172337-2-ND; ComponentLink1Description: Datasheet; ComponentLink1URL: https://product.tdk.com/info/en/catalog/datasheets/beads_commercial_signal_mmz1608_en.pdf; ComponentLink2Description: Digi-Key listing; ComponentLink2URL: http://digikey.com/product-detail/en/MMZ1608D050CTA00/445-172337-2-ND/4901560; Price: 0.0332; Type: -; Device Package: 0603 (1608 Metric)
footprint FER 0603/1608
pins: 1, 2

## MMZ1608D100CTAH0
designator FB?, comment 10 Ohm @ 100MHz
FERRITE CHIP 10 OHM 0603; Part Number: MMZ1608D100CTAH0; Manufacturer: TDK Corporation; Type: Differential Mode - Single; DC Resistance: 100 mOhm Max; Current Rating: 500mA; PartId: 6713; Value: 10 Ohm @ 100MHz; Supplier 1: Digi-Key; Supplier Part Number 1: 445-6405-2-ND; ComponentLink1Description: Datasheet; ComponentLink1URL: https://product.tdk.com/info/en/catalog/datasheets/beads_commercial_signal_mmz1608_en.pdf; ComponentLink2Description: Digi-Key listing; ComponentLink2URL: http://digikey.com/product-detail/en/MMZ1608D100CTAH0/445-6405-2-ND/2465162; Price: 0.0332; Device Package: 0603 (1608 Metric)
footprint FER 0603/1608
pins: 1, 2

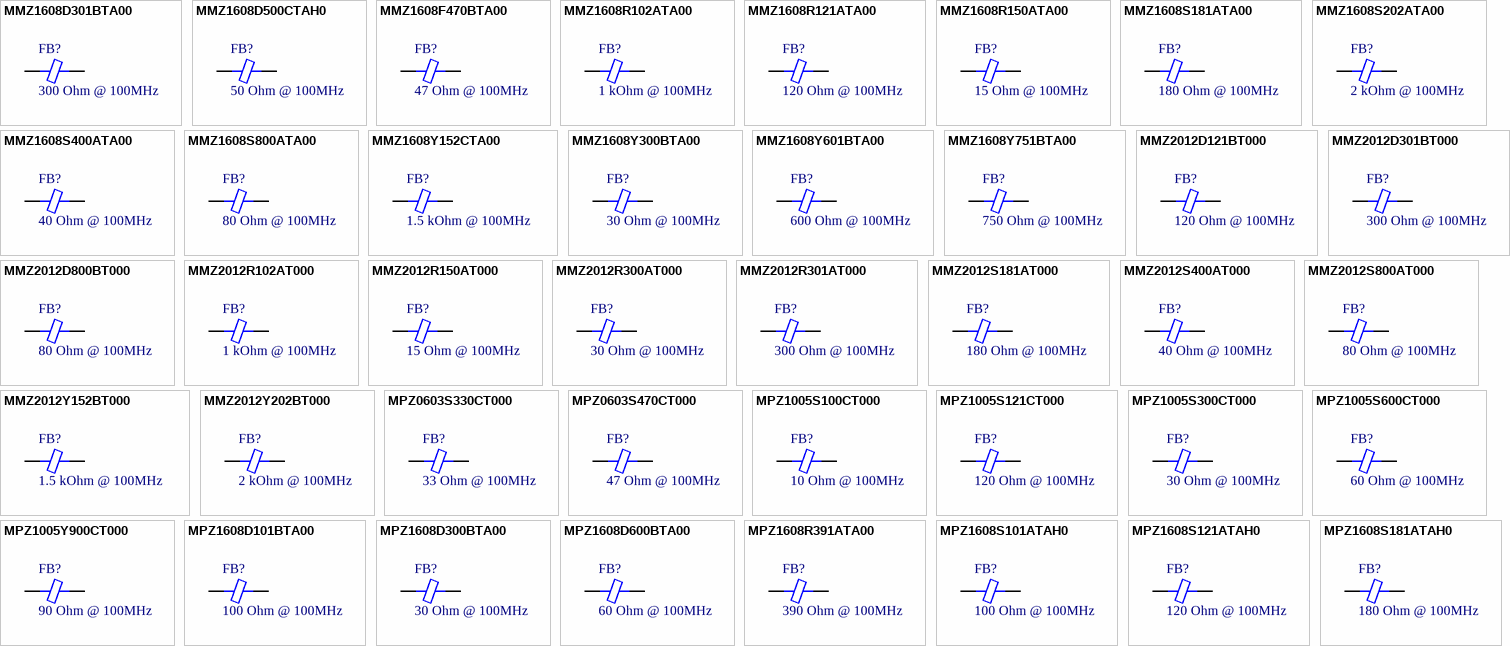
[diagram p10: symbols MMZ1608D301BTA00 to MPZ1608S181ATAH0]

## MMZ1608D301BTA00
designator FB?, comment 300 Ohm @ 100MHz
FERRITE CHIP 300 OHM 300MA 0603; Part Number: MMZ1608D301BTA00; Manufacturer: TDK Corporation; Type: Differential Mode - Single; DC Resistance: 700 mOhm Max; PartId: 6711; Value: 300 Ohm @ 100MHz; Supplier 1: Digi-Key; Supplier Part Number 1: 445-2169-2-ND; ComponentLink1Description: Datasheet; ComponentLink1URL: https://product.tdk.com/info/en/catalog/datasheets/beads_commercial_signal_mmz1608_en.pdf; ComponentLink2Description: Digi-Key listing; ComponentLink2URL: http://digikey.com/product-detail/en/MMZ1608D301BTA00/445-2169-2-ND/600535; Price: 0.0332; Device Package: 0603 (1608 Metric); Current Rating: 300mA
footprint FER 0603/1608
pins: 1, 2

## MMZ1608D500CTAH0
designator FB?, comment 50 Ohm @ 100MHz
FERRITE CHIP 50 OHM 0603; Part Number: MMZ1608D500CTAH0; Manufacturer: TDK Corporation; Type: Differential Mode - Single; DC Resistance: 250 mOhm Max; Current Rating: 500mA; PartId: 6712; Value: 50 Ohm @ 100MHz; Supplier 1: Digi-Key; Supplier Part Number 1: 445-6408-2-ND; ComponentLink1Description: Datasheet; ComponentLink1URL: https://product.tdk.com/info/en/catalog/datasheets/beads_commercial_signal_mmz1608_en.pdf; ComponentLink2Description: Digi-Key listing; ComponentLink2URL: http://digikey.com/product-detail/en/MMZ1608D500CTAH0/445-6408-2-ND/2465165; Price: 0.0332; Device Package: 0603 (1608 Metric)
footprint FER 0603/1608
pins: 1, 2

## MMZ1608F470BTA00
designator FB?, comment 47 Ohm @ 100MHz
FERRITE CHIP 47 OHM 500MA 0603; Part Number: MMZ1608F470BTA00; Manufacturer: TDK Corporation; Type: Differential Mode - Single; DC Resistance: 400 mOhm Max; PartId: 6716; Value: 47 Ohm @ 100MHz; Supplier 1: Digi-Key; Supplier Part Number 1: 445-8678-2-ND; ComponentLink1Description: Datasheet; ComponentLink1URL: https://product.tdk.com/info/en/catalog/datasheets/beads_commercial_signal_mmz1608_en.pdf; ComponentLink2Description: Digi-Key listing; ComponentLink2URL: http://digikey.com/product-detail/en/MMZ1608F470BTA00/445-8678-2-ND/3078601; Price: 0.0332; Device Package: 0603 (1608 Metric); Current Rating: 500mA
footprint FER 0603/1608
pins: 1, 2

## MMZ1608R102ATA00
designator FB?, comment 1 kOhm @ 100MHz
FERRITE CHIP 1000 OHM 400MA 0603; Part Number: MMZ1608R102ATA00; Manufacturer: TDK Corporation; Type: Differential Mode - Single; DC Resistance: 500 mOhm Max; PartId: 6604; Value: 1 kOhm @ 100MHz; Supplier 1: Digi-Key; Supplier Part Number 1: 445-1548-2-ND; ComponentLink1Description: Datasheet; ComponentLink1URL: https://product.tdk.com/info/en/catalog/datasheets/beads_commercial_signal_mmz1608_en.pdf; ComponentLink2Description: Digi-Key listing; ComponentLink2URL: http://digikey.com/product-detail/en/MMZ1608R102ATA00/445-1548-2-ND/571856; Price: 0.0275; Device Package: 0603 (1608 Metric); Current Rating: 400mA
footprint FER 0603/1608
pins: 1, 2

## MMZ1608R121ATA00
designator FB?, comment 120 Ohm @ 100MHz
FERRITE CHIP 120 OHM 500MA 0603; Part Number: MMZ1608R121ATA00; Manufacturer: TDK Corporation; Type: Differential Mode - Single; DC Resistance: 180 mOhm Max; PartId: 6609; Value: 120 Ohm @ 100MHz; Supplier 1: Digi-Key; Supplier Part Number 1: 445-2170-2-ND; ComponentLink1Description: Datasheet; ComponentLink1URL: https://product.tdk.com/info/en/catalog/datasheets/beads_commercial_signal_mmz1608_en.pdf; ComponentLink2Description: Digi-Key listing; ComponentLink2URL: http://digikey.com/product-detail/en/MMZ1608R121ATA00/445-2170-2-ND/600537; Price: 0.0275; Device Package: 0603 (1608 Metric); Current Rating: 500mA
footprint FER 0603/1608
pins: 1, 2

## MMZ1608R150ATA00
designator FB?, comment 15 Ohm @ 100MHz
FERRITE CHIP 15 OHM 0603; Part Number: MMZ1608R150ATA00; Manufacturer: TDK Corporation; Type: Differential Mode - Single; DC Resistance: 50 mOhm Max; Current Rating: 1.5A; PartId: 6605; Value: 15 Ohm @ 100MHz; Supplier 1: Digi-Key; Supplier Part Number 1: 445-2180-2-ND; ComponentLink1Description: Datasheet; ComponentLink1URL: https://product.tdk.com/info/en/catalog/datasheets/beads_commercial_signal_mmz1608_en.pdf; ComponentLink2Description: Digi-Key listing; ComponentLink2URL: http://digikey.com/product-detail/en/MMZ1608R150ATA00/445-2180-2-ND/765048; Price: 0.0275; Device Package: 0603 (1608 Metric)
footprint FER 0603/1608
pins: 1, 2

## MMZ1608S181ATA00
designator FB?, comment 180 Ohm @ 100MHz
FERRITE CHIP 180 OHM 500MA 0603; Part Number: MMZ1608S181ATA00; Manufacturer: TDK Corporation; Type: Differential Mode - Single; DC Resistance: 200 mOhm Max; PartId: 6613; Value: 180 Ohm @ 100MHz; Supplier 1: Digi-Key; Supplier Part Number 1: 445-2174-2-ND; ComponentLink1Description: Datasheet; ComponentLink1URL: https://product.tdk.com/info/en/catalog/datasheets/beads_commercial_signal_mmz1608_en.pdf; ComponentLink2Description: Digi-Key listing; ComponentLink2URL: http://digikey.com/product-detail/en/MMZ1608S181ATA00/445-2174-2-ND/600540; Price: 0.0275; Device Package: 0603 (1608 Metric); Current Rating: 500mA
footprint FER 0603/1608
pins: 1, 2

## MMZ1608S202ATA00
designator FB?, comment 2 kOhm @ 100MHz
FERRITE CHIP 2000 OHM 200MA 0603; Part Number: MMZ1608S202ATA00; Manufacturer: TDK Corporation; Type: Differential Mode - Single; DC Resistance: 900 mOhm Max; PartId: 6608; Value: 2 kOhm @ 100MHz; Supplier 1: Digi-Key; Supplier Part Number 1: 445-8687-2-ND; ComponentLink1Description: Datasheet; ComponentLink1URL: https://product.tdk.com/info/en/catalog/datasheets/beads_commercial_signal_mmz1608_en.pdf; ComponentLink2Description: Digi-Key listing; ComponentLink2URL: http://digikey.com/product-detail/en/MMZ1608S202ATA00/445-8687-2-ND/3078624; Price: 0.0275; Device Package: 0603 (1608 Metric); Current Rating: 200mA
footprint FER 0603/1608
pins: 1, 2

## MMZ1608S400ATA00
designator FB?, comment 40 Ohm @ 100MHz
FERRITE CHIP 40 OHM 0603; Part Number: MMZ1608S400ATA00; Manufacturer: TDK Corporation; Type: Differential Mode - Single; DC Resistance: 100 mOhm Max; Current Rating: 600mA; PartId: 6607; Value: 40 Ohm @ 100MHz; Supplier 1: Digi-Key; Supplier Part Number 1: 445-2183-2-ND; ComponentLink1Description: Datasheet; ComponentLink1URL: https://product.tdk.com/info/en/catalog/datasheets/beads_commercial_signal_mmz1608_en.pdf; ComponentLink2Description: Digi-Key listing; ComponentLink2URL: http://digikey.com/product-detail/en/MMZ1608S400ATA00/445-2183-2-ND/765051; Price: 0.0275; Device Package: 0603 (1608 Metric)
footprint FER 0603/1608
pins: 1, 2

## MMZ1608S800ATA00
designator FB?, comment 80 Ohm @ 100MHz
FERRITE CHIP 80 OHM 500MA 0603; Part Number: MMZ1608S800ATA00; Manufacturer: TDK Corporation; Type: Differential Mode - Single; DC Resistance: 150 mOhm Max; PartId: 6611; Value: 80 Ohm @ 100MHz; Supplier 1: Digi-Key; Supplier Part Number 1: 445-2172-2-ND; ComponentLink1Description: Datasheet; ComponentLink1URL: https://product.tdk.com/info/en/catalog/datasheets/beads_commercial_signal_mmz1608_en.pdf; ComponentLink2Description: Digi-Key listing; ComponentLink2URL: http://digikey.com/product-detail/en/MMZ1608S800ATA00/445-2172-2-ND/600542; Price: 0.0275; Device Package: 0603 (1608 Metric); Current Rating: 500mA
footprint FER 0603/1608
pins: 1, 2

## MMZ1608Y152CTA00
designator FB?, comment 1.5 kOhm @ 100MHz
FERRITE CHIP 1500 OHM 300MA 0603; Part Number: MMZ1608Y152CTA00; Manufacturer: TDK Corporation; Type: Differential Mode - Single; DC Resistance: 500 mOhm Max; PartId: 6586; Value: 1.5 kOhm @ 100MHz; Supplier 1: Digi-Key; Supplier Part Number 1: 445-172732-2-ND; ComponentLink1Description: Datasheet; ComponentLink1URL: https://product.tdk.com/info/en/catalog/datasheets/beads_commercial_signal_mmz1608_en.pdf; ComponentLink2Description: Digi-Key listing; ComponentLink2URL: http://digikey.com/product-detail/en/MMZ1608Y152CTA00/445-172732-2-ND/1967584; Price: 0.023; Device Package: 0603 (1608 Metric); Current Rating: 300mA
footprint FER 0603/1608
pins: 1, 2

## MMZ1608Y300BTA00
designator FB?, comment 30 Ohm @ 100MHz
FERRITE CHIP 30 OHM 0603; Part Number: MMZ1608Y300BTA00; Manufacturer: TDK Corporation; Type: Differential Mode - Single; DC Resistance: 50 mOhm Max; Current Rating: 1.5A; PartId: 6602; Value: 30 Ohm @ 100MHz; Supplier 1: Digi-Key; Supplier Part Number 1: 445-2185-2-ND; ComponentLink1Description: Datasheet; ComponentLink1URL: https://product.tdk.com/info/en/catalog/datasheets/beads_commercial_signal_mmz1608_en.pdf; ComponentLink2Description: Digi-Key listing; ComponentLink2URL: http://digikey.com/product-detail/en/MMZ1608Y300BTA00/445-2185-2-ND/765053; Price: 0.0275; Device Package: 0603 (1608 Metric)
footprint FER 0603/1608
pins: 1, 2

## MMZ1608Y601BTA00
designator FB?, comment 600 Ohm @ 100MHz
FERRITE CHIP 600 OHM 500MA 0603; Part Number: MMZ1608Y601BTA00; Manufacturer: TDK Corporation; Type: Differential Mode - Single; DC Resistance: 400 mOhm Max; PartId: 6603; Value: 600 Ohm @ 100MHz; Supplier 1: Digi-Key; Supplier Part Number 1: 445-1551-2-ND; ComponentLink1Description: Datasheet; ComponentLink1URL: https://product.tdk.com/info/en/catalog/datasheets/beads_commercial_signal_mmz1608_en.pdf; ComponentLink2Description: Digi-Key listing; ComponentLink2URL: http://digikey.com/product-detail/en/MMZ1608Y601BTA00/445-1551-2-ND/571858; Price: 0.0275; Device Package: 0603 (1608 Metric); Current Rating: 500mA
footprint FER 0603/1608
pins: 1, 2

## MMZ1608Y751BTA00
designator FB?, comment 750 Ohm @ 100MHz
FERRITE CHIP 750 OHM 500MA 0603; Part Number: MMZ1608Y751BTA00; Manufacturer: TDK Corporation; Type: Differential Mode - Single; DC Resistance: 450 mOhm Max; PartId: 6619; Value: 750 Ohm @ 100MHz; Supplier 1: Digi-Key; Supplier Part Number 1: 445-8692-2-ND; ComponentLink1Description: Datasheet; ComponentLink1URL: https://product.tdk.com/info/en/catalog/datasheets/beads_commercial_signal_mmz1608_en.pdf; ComponentLink2Description: Digi-Key listing; ComponentLink2URL: http://digikey.com/product-detail/en/MMZ1608Y751BTA00/445-8692-2-ND/3078627; Price: 0.0275; Device Package: 0603 (1608 Metric); Current Rating: 500mA
footprint FER 0603/1608
pins: 1, 2

## MMZ2012D121BT000
designator FB?, comment 120 Ohm @ 100MHz
FERRITE CHIP 120 OHM 500MA 0805; Part Number: MMZ2012D121BT000; Manufacturer: TDK Corporation; Type: Differential Mode - Single; DC Resistance: 300 mOhm Max; PartId: 6806; Value: 120 Ohm @ 100MHz; Supplier 1: Digi-Key; Supplier Part Number 1: 445-2188-2-ND; ComponentLink1Description: Datasheet; ComponentLink1URL: https://product.tdk.com/info/en/catalog/datasheets/beads_commercial_signal_mmz2012_en.pdf; ComponentLink2Description: Digi-Key listing; ComponentLink2URL: http://digikey.com/product-detail/en/MMZ2012D121BT000/445-2188-2-ND/600545; Price: 0.0344; Device Package: 0805 (2012 Metric); Current Rating: 500mA
footprint FER 0805/2012
pins: 1, 2

## MMZ2012D301BT000
designator FB?, comment 300 Ohm @ 100MHz
FERRITE CHIP 300 OHM 400MA 0805; Part Number: MMZ2012D301BT000; Manufacturer: TDK Corporation; Type: Differential Mode - Single; DC Resistance: 500 mOhm Max; PartId: 6807; Value: 300 Ohm @ 100MHz; Supplier 1: Digi-Key; Supplier Part Number 1: 445-2189-2-ND; ComponentLink1Description: Datasheet; ComponentLink1URL: https://product.tdk.com/info/en/catalog/datasheets/beads_commercial_signal_mmz2012_en.pdf; ComponentLink2Description: Digi-Key listing; ComponentLink2URL: http://digikey.com/product-detail/en/MMZ2012D301BT000/445-2189-2-ND/600546; Price: 0.0344; Device Package: 0805 (2012 Metric); Current Rating: 400mA
footprint FER 0805/2012
pins: 1, 2

## MMZ2012D800BT000
designator FB?, comment 80 Ohm @ 100MHz
FERRITE CHIP 80 OHM 500MA 0805; Part Number: MMZ2012D800BT000; Manufacturer: TDK Corporation; Type: Differential Mode - Single; DC Resistance: 300 mOhm Max; PartId: 6799; Value: 80 Ohm @ 100MHz; Supplier 1: Digi-Key; Supplier Part Number 1: 445-2187-2-ND; ComponentLink1Description: Datasheet; ComponentLink1URL: https://product.tdk.com/info/en/catalog/datasheets/beads_commercial_signal_mmz2012_en.pdf; ComponentLink2Description: Digi-Key listing; ComponentLink2URL: http://digikey.com/product-detail/en/MMZ2012D800BT000/445-2187-2-ND/600547; Price: 0.0344; Device Package: 0805 (2012 Metric); Current Rating: 500mA
footprint FER 0805/2012
pins: 1, 2

## MMZ2012R102AT000
designator FB?, comment 1 kOhm @ 100MHz
FERRITE CHIP 1000 OHM 500MA 0805; Part Number: MMZ2012R102AT000; Manufacturer: TDK Corporation; Type: Differential Mode - Single; DC Resistance: 300 mOhm Max; PartId: 6796; Value: 1 kOhm @ 100MHz; Supplier 1: Digi-Key; Supplier Part Number 1: 445-1555-2-ND; ComponentLink1Description: Datasheet; ComponentLink1URL: https://product.tdk.com/info/en/catalog/datasheets/beads_commercial_signal_mmz2012_en.pdf; ComponentLink2Description: Digi-Key listing; ComponentLink2URL: http://digikey.com/product-detail/en/MMZ2012R102AT000/445-1555-2-ND/571862; Price: 0.0344; Device Package: 0805 (2012 Metric); Current Rating: 500mA
footprint FER 0805/2012
pins: 1, 2